# EAGLE library part MCP3208-SOIC16 (library dawidkulpa_dev)
16 channel PWM driver
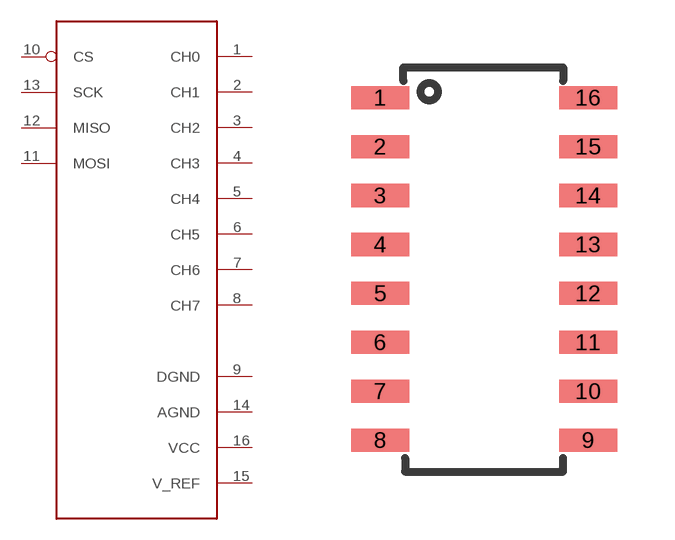
[diagram p0: symbol with the pads of SOIC16; footprint SOIC16]

Designator prefix -

## MCP3208-SOIC16  [SOIC16]
1  CH0
2  CH1
3  CH2
4  CH3
5  CH4
6  CH5
7  CH6
8  CH7
9  DGND
10  CS
11  MOSI
12  MISO
13  SCK
14  AGND
15  V_REF
16  VCC

## Footprint SOIC16 (pad centres in mm)
smd 1.5 x 0.6: 1 -2.7,3.81; 2 -2.7,2.54; 3 -2.7,1.27; 4 -2.7,0; 5 -2.7,-1.27; 6 -2.7,-2.54; 7 -2.7,-3.81; 8 -2.7,-5.08; 9 2.7,-5.08; 10 2.7,-3.81; 11 2.7,-2.54; 12 2.7,-1.27; 13 2.7,0; 14 2.7,1.27; 15 2.7,2.54; 16 2.7,3.81